# EAGLE library part DS1339C_SOIC16 (library miller)
Maxim DS1339C real time clock with internal crystal SOIC-16 narrow package (300 mils) Available in 2.0V, 3.0V, 3.3V versions, check part number
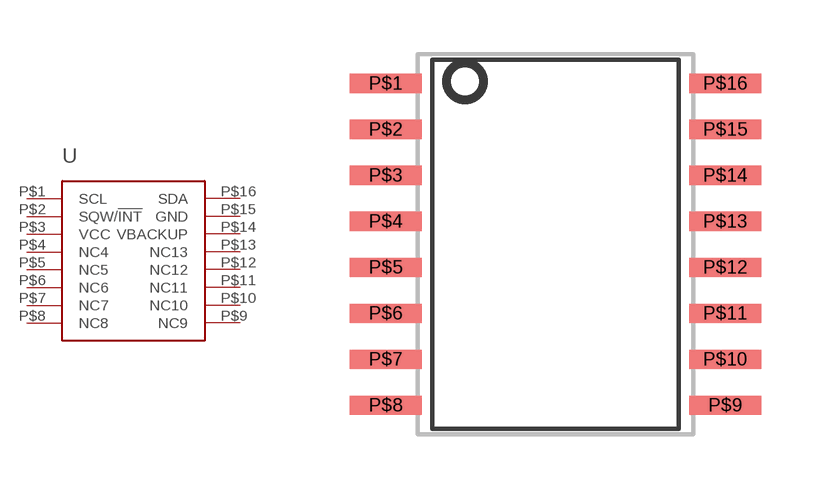
[diagram p25: symbol with the pads of SOIC-16_0.300; footprint SOIC-16_0.300]

Designator prefix -

## DS1339C_SOIC16  [SOIC-16_0.300]
P$1  SCL
P$2  SQW/!INT
P$3  VCC  pwr
P$4  NC4
P$5  NC5
P$6  NC6
P$7  NC7
P$8  NC8
P$9  NC9
P$10  NC10
P$11  NC11
P$12  NC12
P$13  NC13
P$14  VBACKUP  pwr
P$15  GND  pwr
P$16  SDA

## Footprint SOIC-16_0.300 (pad centres in mm)
Maxim pattern 16 SO W16#H2 http://pdfserv.maximintegrated.com/land_patterns/90-0107.PDF
smd 1.98 x 0.53: P$1 -4.685,4.445; P$2 -4.685,3.175; P$3 -4.685,1.905; P$4 -4.685,0.635; P$5 -4.685,-0.635; P$6 -4.685,-1.905; P$7 -4.685,-3.175; P$8 -4.685,-4.445; P$9 4.685,-4.445; P$10 4.685,-3.175; P$11 4.685,-1.905; P$12 4.685,-0.635; P$13 4.685,0.635; P$14 4.685,1.905; P$15 4.685,3.175; P$16 4.685,4.445